# EAGLE library part 621010242921 (library Wurth_Elektronik2)
WR-PHD 2.00mm Dual SMT Socket Header, 10 Pins=>Code : Con_BTB_SHD_2.00_2_621010242921 <http://katalog.we-online.de/media/thumbs2/eican/thb_Con_BTB_SHD_2.00_2_6210xx242921_pf2.jpg> Details see: http://katalog.we-online.de/en/em/621_0xx_242_921 Created 2014-06-03, Karrer Zheng 2014 (C) Würth Elektronik
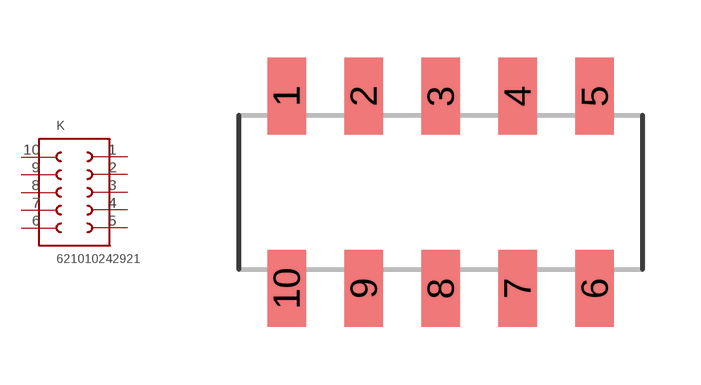
[diagram p268: symbol with the pads of 621010242921; footprint 621010242921]

Designator prefix K

## 621010242921  [621010242921]
1  1  pas
2  2  pas
3  3  pas
4  4  pas
5  5  pas
6  6  pas
7  7  pas
8  8  pas
9  9  pas
10  10  pas

## Footprint 621010242921 (pad centres in mm)
WR-PHD 2.00mm Dual SMT Socket Header, 10 Pins
smd 1 x 2: 1 -4,2.5; 2 -2,2.5; 3 0,2.5; 4 2,2.5; 5 4,2.5; 6 4,-2.5; 7 2,-2.5; 8 0,-2.5; 9 -2,-2.5; 10 -4,-2.5